# Altium schematic symbol library Electromechanical.SchLib: 14 symbols
Pins are listed as number, name and electrical type; pins without a type are passive.

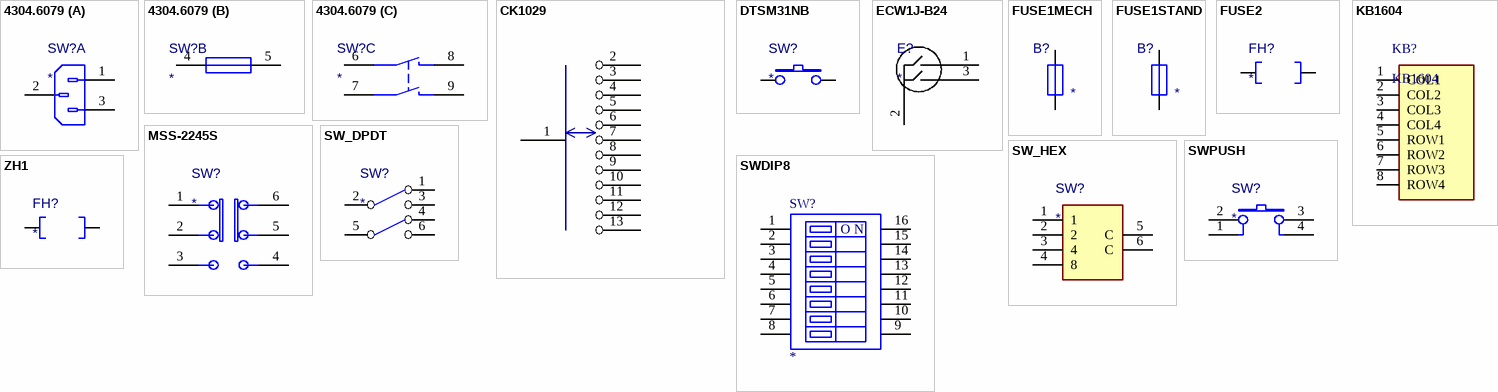
[diagram p0: symbols 4304.6079 to ZH1]

## 4304.6079
designator SW?
Value: *
part A pins: 1 ACIn, 2 ACIn, 3 ACIn
part B pins: 4, 5
part C pins: 6, 7, 8, 9

## CK1029
designator SW?
Value: CK1029
pins: 1, 2, 3, 4, 5, 6, 7, 8, 9, 10, 11, 12, 13

## DTSM31NB
designator SW?
Value: *
pins: 1, 2

## ECW1J-B24
designator E?
Value: *
pins: 1, 2, 3

## FUSE1MECH
designator B?  (mechanical)
Value: *; OtherParams: *
pins: 1, 2

## FUSE1STAND
designator B?
Value: *; OtherParams: *
pins: 1, 2

## FUSE2
designator FH?
Value: *
pins: 1, 2, 3, 4, 5, 6, 7, 8

## KB1604
designator KB?
Value: KB1604
pins: 1 COL1, 2 COL2, 3 COL3, 4 COL4, 5 ROW1, 6 ROW2, 7 ROW3, 8 ROW4

## MSS-2245S
designator SW?
Value: *
pins: 1, 2, 3, 4, 5, 6

## SW_DPDT
designator SW?
Value: *
pins: 1 NC1, 2 COM1, 3 NO1, 4 NC2, 5 COM2, 6 NO2

## SW_HEX
designator SW?
Value: *
pins: 1, 2, 3 4, 4 8, 5 C, 6 C

## SWDIP8
designator SW?
pins: 1, 2, 3, 4, 5, 6, 7, 8, 9, 10, 11 7, 12 8, 13 5, 14 6, 15 3, 16 4
text: O N

## SWPUSH
designator SW?
Value: *
pins: 1, 2, 3, 4

## ZH1
designator FH?
Value: *
pins: 1, 2